# EAGLE library part TPS2492 (library power)
IC CTRLR HOT SWAP POS HV 14TSSOP
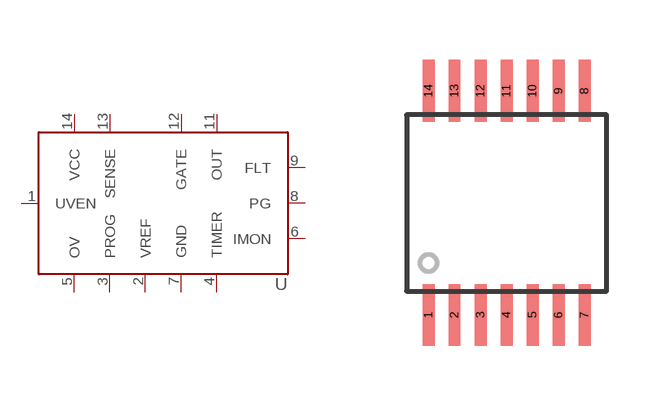
[diagram p10: symbol with the pads of R-PDSO-G14; footprint R-PDSO-G14]

Designator prefix U

## TPS2492  [R-PDSO-G14]
1  UVEN
2  VREF
3  PROG
4  TIMER
5  OV
6  IMON
7  GND
8  PG
9  FLT
11  OUT
12  GATE
13  SENSE
14  VCC

## Footprint R-PDSO-G14 (pad centres in mm)
smd 0.3 x 1.55: 1 -1.95,-2.8; 2 -1.3,-2.8; 3 -0.65,-2.8; 4 0,-2.8; 5 0.65,-2.8; 6 1.3,-2.8; 7 1.95,-2.8; 8 1.95,2.8; 9 1.3,2.8; 10 0.65,2.8; 11 0,2.8; 12 -0.65,2.8; 13 -1.3,2.8; 14 -1.95,2.8